# Altium integrated library ON Semi Signal Management Operational Amplifiers.IntLib: 435 symbols (part 2 of 12)
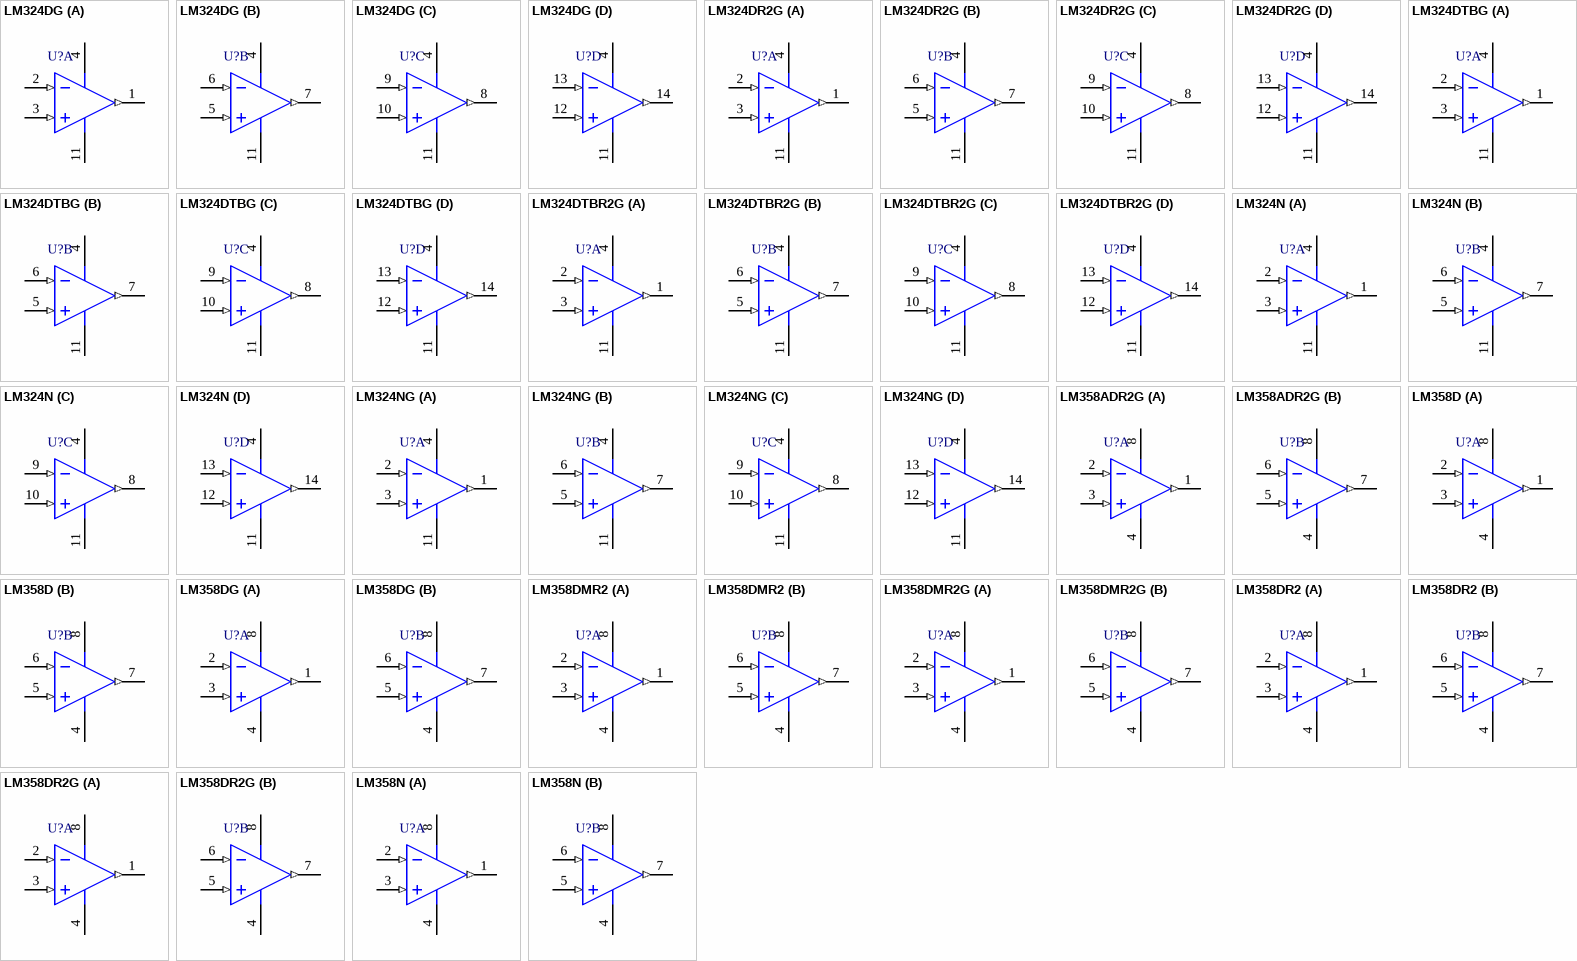
[diagram p26: symbols LM324DG to LM358N]

## LM324DTBG
designator U?
Single Supply Quad Operational Amplifier, 3 to 32 V, 0 to 70 degC, 14-Pin TSSOP, Pb-Free, Tube; Manufacturer: On Semiconductor; PartNumber: LM324DTBG; VCC Max (V): 32; VCC Min (V): 3; DatasheetVersion: Rev. 25; PackageVersion: Rev. B, 10/2006; PackageReference: TSSOP-14-948G-01; PackageDescription: 14-Pin Small Outline Package, Body 5 x 4.4 mm, Pitch 0.65 mm; Supplier 1: Digi-Key; Supplier Part Number 1: LM324DTBG-ND; Supplier 2: Mouser; Supplier Part Number 2: 863-LM324DTBG; Packing: Tube; RoHS: TRUE; Mounting Technology: Surface Mount; ComponentLink1Description: Manufacturer URL; ComponentLink1URL: http://www.onsemi.com/; ComponentLink2Description: Datasheet; ComponentLink2URL: http://www.onsemi.cn/pub_link/Collateral/LM324-D.PDF; ComponentLink3Description: Package Specification; ComponentLink3URL: http://www.onsemi.com/pub_link/Collateral/948G-01.PDF
footprint ONSC-TSSOP-14-948G-01_V (SOP, 14-Leads, Body 5.1x4.5mm, Pitch 0.65mm)
pins on every part: 4 VCC (power), 11 VEE/GND (power)
part A pins: 1 OUT1 (out), 2 IN1- (in), 3 IN1+ (in)
part B pins: 5 IN2+ (in), 6 IN2- (in), 7 OUT2 (out)
part C pins: 8 OUT3 (out), 9 IN3- (in), 10 IN3+ (in)
part D pins: 12 IN4+ (in), 13 IN4- (in), 14 OUT4 (out)

## LM324DTBR2G
designator U?
Single Supply Quad Operational Amplifier, 3 to 32 V, 0 to 70 degC, 14-Pin TSSOP, Pb-Free, Tape and Reel; Manufacturer: On Semiconductor; PartNumber: LM324DTBR2G; VCC Max (V): 32; VCC Min (V): 3; DatasheetVersion: Rev. 25; PackageVersion: Rev. B, 10/2006; PackageReference: TSSOP-14-948G-01; PackageDescription: 14-Pin Small Outline Package, Body 5 x 4.4 mm, Pitch 0.65 mm; Supplier 1: Digi-Key; Supplier Part Number 1: LM324DTBR2GOSTR-ND; Supplier 2: Digi-Key; Supplier Part Number 2: LM324DTBR2GOSCT-ND; Supplier 3: Digi-Key; Supplier Part Number 3: LM324DTBR2GOSDKR-ND; Supplier 4: Mouser; Supplier Part Number 4: 863-LM324DTBR2G; Packing: Tape and Reel; RoHS: TRUE; Mounting Technology: Surface Mount; ComponentLink1Description: Manufacturer URL; ComponentLink1URL: http://www.onsemi.com/; ComponentLink2Description: Datasheet; ComponentLink2URL: http://www.onsemi.cn/pub_link/Collateral/LM324-D.PDF; ComponentLink3Description: Package Specification; ComponentLink3URL: http://www.onsemi.com/pub_link/Collateral/948G-01.PDF
footprint ONSC-TSSOP-14-948G-01_V (SOP, 14-Leads, Body 5.1x4.5mm, Pitch 0.65mm)
pins on every part: 4 VCC (power), 11 VEE/GND (power)
part A pins: 1 OUT1 (out), 2 IN1- (in), 3 IN1+ (in)
part B pins: 5 IN2+ (in), 6 IN2- (in), 7 OUT2 (out)
part C pins: 8 OUT3 (out), 9 IN3- (in), 10 IN3+ (in)
part D pins: 12 IN4+ (in), 13 IN4- (in), 14 OUT4 (out)

## LM324N
designator U?
Single Supply Quad Operational Amplifier, 3 to 32 V, 0 to 70 degC, 14-Pin PDIP, Tube; Manufacturer: On Semiconductor; PartNumber: LM324N; VCC Max (V): 32; VCC Min (V): 3; DatasheetVersion: Rev. 25; PackageVersion: Rev. R, 06/2013; PackageReference: PDIP-14-646-06; PackageDescription: 14-Pin Plastic Dual-In Line Package, Body 19.18 x 6.605 mm, Pitch 2.54 mm; Packing: Tube; RoHS: FALSE; Mounting Technology: Through Hole; ComponentLink1Description: Manufacturer URL; ComponentLink1URL: http://www.onsemi.com/; ComponentLink2Description: Datasheet; ComponentLink2URL: http://www.onsemi.cn/pub_link/Collateral/LM324-D.PDF; ComponentLink3Description: Package Specification; ComponentLink3URL: http://www.onsemi.com/pub_link/Collateral/646-06.PDF
footprint ONSC-PDIP-14-646-06 (DIP, 14-Leads, Body 19.7x7.1mm, Pitch 2.54mm)
pins on every part: 4 VCC (power), 11 VEE/GND (power)
part A pins: 1 OUT1 (out), 2 IN1- (in), 3 IN1+ (in)
part B pins: 5 IN2+ (in), 6 IN2- (in), 7 OUT2 (out)
part C pins: 8 OUT3 (out), 9 IN3- (in), 10 IN3+ (in)
part D pins: 12 IN4+ (in), 13 IN4- (in), 14 OUT4 (out)

## LM324NG
designator U?
Single Supply Quad Operational Amplifier, 3 to 32 V, 0 to 70 degC, 14-Pin PDIP, Pb-Free, Tube; Manufacturer: On Semiconductor; PartNumber: LM324NG; VCC Max (V): 32; VCC Min (V): 3; DatasheetVersion: Rev. 25; PackageVersion: Rev. R, 06/2013; PackageReference: PDIP-14-646-06; PackageDescription: 14-Pin Plastic Dual-In Line Package, Body 19.18 x 6.605 mm, Pitch 2.54 mm; Supplier 1: Digi-Key; Supplier Part Number 1: LM324NGOS-ND; Supplier 2: Newark; Supplier Part Number 2: 45J0745; Supplier 3: Mouser; Supplier Part Number 3: 863-LM324NG; Packing: Tube; RoHS: TRUE; Mounting Technology: Through Hole; ComponentLink1Description: Manufacturer URL; ComponentLink1URL: http://www.onsemi.com/; ComponentLink2Description: Datasheet; ComponentLink2URL: http://www.onsemi.cn/pub_link/Collateral/LM324-D.PDF; ComponentLink3Description: Package Specification; ComponentLink3URL: http://www.onsemi.com/pub_link/Collateral/646-06.PDF
footprint ONSC-PDIP-14-646-06 (DIP, 14-Leads, Body 19.7x7.1mm, Pitch 2.54mm)
pins on every part: 4 VCC (power), 11 VEE/GND (power)
part A pins: 1 OUT1 (out), 2 IN1- (in), 3 IN1+ (in)
part B pins: 5 IN2+ (in), 6 IN2- (in), 7 OUT2 (out)
part C pins: 8 OUT3 (out), 9 IN3- (in), 10 IN3+ (in)
part D pins: 12 IN4+ (in), 13 IN4- (in), 14 OUT4 (out)

## LM358ADR2G
designator U?
Single Supply Dual Operational Amplifier, 3 to 32 V, 0 to 70 degC, 8-Pin SOIC, Pb-Free, Tape and Reel; Manufacturer: On Semiconductor; PartNumber: LM358ADR2G; VCC Max (V): 32; VCC Min (V): 3; DatasheetVersion: Rev. 27; PackageVersion: Rev. AK, 02/2011; PackageReference: SOIC-8-751-07; PackageDescription: 8-Pin Small Outline Integrated Circuit, Body 4.9 x 3.9 mm, Pitch 1.27 mm; Supplier 1: Digi-Key; Supplier Part Number 1: LM358ADR2GOSTR-ND; Supplier 2: Digi-Key; Supplier Part Number 2: LM358ADR2GOSCT-ND; Supplier 3: Digi-Key; Supplier Part Number 3: LM358ADR2GOSDKR-ND; Supplier 4: Newark; Supplier Part Number 4: 61K0061; Supplier 5: Mouser; Supplier Part Number 5: 863-LM358ADR2G; Packing: Tape and Reel; RoHS: TRUE; Mounting Technology: Surface Mount; ComponentLink1Description: Manufacturer URL; ComponentLink1URL: http://www.onsemi.com/; ComponentLink2Description: Datasheet; ComponentLink2URL: http://www.onsemi.cn/pub_link/Collateral/LM358-D.PDF; ComponentLink3Description: Package Specification; ComponentLink3URL: http://www.onsemi.com/pub_link/Collateral/751-07.PDF
footprint ONSC-SOIC-8-751-07_V (SOIC, 8-Leads, Body 4.9x3.9mm, Pitch 1.27mm)
pins on every part: 4 VEE/GND (power), 8 VCC (power)
part A pins: 1 OUTA (out), 2 INA- (in), 3 INA+ (in)
part B pins: 5 INB+ (in), 6 INB- (in), 7 OUTB (out)

## LM358D
designator U?
Single Supply Dual Operational Amplifier, 3 to 32 V, 0 to 70 degC, 8-Pin SOIC, Tube; Manufacturer: On Semiconductor; PartNumber: LM358D; VCC Max (V): 32; VCC Min (V): 3; DatasheetVersion: Rev. 27; PackageVersion: Rev. AK, 02/2011; PackageReference: SOIC-8-751-07; PackageDescription: 8-Pin Small Outline Integrated Circuit, Body 4.9 x 3.9 mm, Pitch 1.27 mm; Packing: Tube; RoHS: FALSE; Mounting Technology: Surface Mount; ComponentLink1Description: Manufacturer URL; ComponentLink1URL: http://www.onsemi.com/; ComponentLink2Description: Datasheet; ComponentLink2URL: http://www.onsemi.cn/pub_link/Collateral/LM358-D.PDF; ComponentLink3Description: Package Specification; ComponentLink3URL: http://www.onsemi.com/pub_link/Collateral/751-07.PDF
footprint ONSC-SOIC-8-751-07_V (SOIC, 8-Leads, Body 4.9x3.9mm, Pitch 1.27mm)
pins on every part: 4 VEE/GND (power), 8 VCC (power)
part A pins: 1 OUTA (out), 2 INA- (in), 3 INA+ (in)
part B pins: 5 INB+ (in), 6 INB- (in), 7 OUTB (out)

## LM358DG
designator U?
Single Supply Dual Operational Amplifier, 3 to 32 V, 0 to 70 degC, 8-Pin SOIC, Pb-Free, Tube; Manufacturer: On Semiconductor; PartNumber: LM358DG; VCC Max (V): 32; VCC Min (V): 3; DatasheetVersion: Rev. 27; PackageVersion: Rev. AK, 02/2011; PackageReference: SOIC-8-751-07; PackageDescription: 8-Pin Small Outline Integrated Circuit, Body 4.9 x 3.9 mm, Pitch 1.27 mm; Supplier 1: Digi-Key; Supplier Part Number 1: LM358DGOS-ND; Supplier 2: Farnell; Supplier Part Number 2: 1211106; Supplier 3: Farnell; Supplier Part Number 3: 1126415; Supplier 4: Newark; Supplier Part Number 4: 45J0748; Supplier 5: Mouser; Supplier Part Number 5: 863-LM358DG; Packing: Tube; RoHS: TRUE; Mounting Technology: Surface Mount; ComponentLink1Description: Manufacturer URL; ComponentLink1URL: http://www.onsemi.com/; ComponentLink2Description: Datasheet; ComponentLink2URL: http://www.onsemi.cn/pub_link/Collateral/LM358-D.PDF; ComponentLink3Description: Package Specification; ComponentLink3URL: http://www.onsemi.com/pub_link/Collateral/751-07.PDF
footprint ONSC-SOIC-8-751-07_V (SOIC, 8-Leads, Body 4.9x3.9mm, Pitch 1.27mm)
pins on every part: 4 VEE/GND (power), 8 VCC (power)
part A pins: 1 OUTA (out), 2 INA- (in), 3 INA+ (in)
part B pins: 5 INB+ (in), 6 INB- (in), 7 OUTB (out)

## LM358DMR2
designator U?
Single Supply Dual Operational Amplifier, 3 to 32 V, 0 to 70 degC, 8-Pin MICRO, Tape and Reel; Manufacturer: On Semiconductor; PartNumber: LM358DMR2; VCC Max (V): 32; VCC Min (V): 3; DatasheetVersion: Rev. 27; PackageVersion: Rev. H; PackageReference: MICRO-8-846A-02_H; PackageDescription: 8-Pin Small Outline Package, Body 3 x 3 mm, Pitch 0.65 mm; Supplier 1: Digi-Key; Supplier Part Number 1: LM358DMR2-ND; Packing: Tape and Reel; RoHS: FALSE; Mounting Technology: Surface Mount; ComponentLink1Description: Manufacturer URL; ComponentLink1URL: http://www.onsemi.com/; ComponentLink2Description: Datasheet; ComponentLink2URL: http://www.onsemi.cn/pub_link/Collateral/LM358-D.PDF; ComponentLink3Description: Package Specification; ComponentLink3URL: http://www.onsemi.com/pub_link/Collateral/NLSV2T244-D.PDF
footprint ONSC-MICRO-8-846A-02_H_V (SOIC, 8-Leads, Body 3.1x3.1mm, Pitch 0.65mm)
pins on every part: 4 VEE/GND (power), 8 VCC (power)
part A pins: 1 OUTA (out), 2 INA- (in), 3 INA+ (in)
part B pins: 5 INB+ (in), 6 INB- (in), 7 OUTB (out)

## LM358DMR2G
designator U?
Single Supply Dual Operational Amplifier, 3 to 32 V, 0 to 70 degC, 8-Pin MICRO, Pb-Free, Tape and Reel; Manufacturer: On Semiconductor; PartNumber: LM358DMR2G; VCC Max (V): 32; VCC Min (V): 3; DatasheetVersion: Rev. 27; PackageVersion: Rev. H; PackageReference: MICRO-8-846A-02_H; PackageDescription: 8-Pin Small Outline Package, Body 3 x 3 mm, Pitch 0.65 mm; Supplier 1: Digi-Key; Supplier Part Number 1: LM358DMR2GOSTR-ND; Supplier 2: Digi-Key; Supplier Part Number 2: LM358DMR2GOSCT-ND; Supplier 3: Digi-Key; Supplier Part Number 3: LM358DMR2GOSDKR-ND; Supplier 4: Newark; Supplier Part Number 4: 04R7818; Supplier 5: Mouser; Supplier Part Number 5: 863-LM358DMR2G; Packing: Tape and Reel; RoHS: TRUE; Mounting Technology: Surface Mount; ComponentLink1Description: Manufacturer URL; ComponentLink1URL: http://www.onsemi.com/; ComponentLink2Description: Datasheet; ComponentLink2URL: http://www.onsemi.cn/pub_link/Collateral/LM358-D.PDF; ComponentLink3Description: Package Specification; ComponentLink3URL: http://www.onsemi.com/pub_link/Collateral/NLSV2T244-D.PDF
footprint ONSC-MICRO-8-846A-02_H_V (SOIC, 8-Leads, Body 3.1x3.1mm, Pitch 0.65mm)
pins on every part: 4 VEE/GND (power), 8 VCC (power)
part A pins: 1 OUTA (out), 2 INA- (in), 3 INA+ (in)
part B pins: 5 INB+ (in), 6 INB- (in), 7 OUTB (out)

## LM358DR2
designator U?
Single Supply Dual Operational Amplifier, 3 to 32 V, 0 to 70 degC, 8-Pin SOIC, Tape and Reel; Manufacturer: On Semiconductor; PartNumber: LM358DR2; VCC Max (V): 32; VCC Min (V): 3; DatasheetVersion: Rev. 27; PackageVersion: Rev. AK, 02/2011; PackageReference: SOIC-8-751-07; PackageDescription: 8-Pin Small Outline Integrated Circuit, Body 4.9 x 3.9 mm, Pitch 1.27 mm; Supplier 1: Digi-Key; Supplier Part Number 1: LM358DR2OSCT-ND; Packing: Tape and Reel; RoHS: FALSE; Mounting Technology: Surface Mount; ComponentLink1Description: Manufacturer URL; ComponentLink1URL: http://www.onsemi.com/; ComponentLink2Description: Datasheet; ComponentLink2URL: http://www.onsemi.cn/pub_link/Collateral/LM358-D.PDF; ComponentLink3Description: Package Specification; ComponentLink3URL: http://www.onsemi.com/pub_link/Collateral/751-07.PDF
footprint ONSC-SOIC-8-751-07_V (SOIC, 8-Leads, Body 4.9x3.9mm, Pitch 1.27mm)
pins on every part: 4 VEE/GND (power), 8 VCC (power)
part A pins: 1 OUTA (out), 2 INA- (in), 3 INA+ (in)
part B pins: 5 INB+ (in), 6 INB- (in), 7 OUTB (out)

## LM358DR2G
designator U?
Single Supply Dual Operational Amplifier, 3 to 32 V, 0 to 70 degC, 8-Pin SOIC, Pb-Free, Tape and Reel; Manufacturer: On Semiconductor; PartNumber: LM358DR2G; VCC Max (V): 32; VCC Min (V): 3; DatasheetVersion: Rev. 27; PackageVersion: Rev. AK, 02/2011; PackageReference: SOIC-8-751-07; PackageDescription: 8-Pin Small Outline Integrated Circuit, Body 4.9 x 3.9 mm, Pitch 1.27 mm; Supplier 1: Digi-Key; Supplier Part Number 1: LM358DR2GOSTR-ND; Supplier 2: Digi-Key; Supplier Part Number 2: LM358DR2GOSCT-ND; Supplier 3: Digi-Key; Supplier Part Number 3: LM358DR2GOSDKR-ND; Supplier 4: Farnell; Supplier Part Number 4: 2102546RL; Supplier 5: Farnell; Supplier Part Number 5: 2102546; Supplier 6: Newark; Supplier Part Number 6: 83H7264; Supplier 7: Newark; Supplier Part Number 7: 29X6011; Supplier 8: Mouser; Supplier Part Number 8: 863-LM358DR2G; Packing: Tape and Reel; RoHS: TRUE; Mounting Technology: Surface Mount; ComponentLink1Description: Manufacturer URL; ComponentLink1URL: http://www.onsemi.com/; ComponentLink2Description: Datasheet; ComponentLink2URL: http://www.onsemi.cn/pub_link/Collateral/LM358-D.PDF; ComponentLink3Description: Package Specification; ComponentLink3URL: http://www.onsemi.com/pub_link/Collateral/751-07.PDF
footprint ONSC-SOIC-8-751-07_V (SOIC, 8-Leads, Body 4.9x3.9mm, Pitch 1.27mm)
pins on every part: 4 VEE/GND (power), 8 VCC (power)
part A pins: 1 OUTA (out), 2 INA- (in), 3 INA+ (in)
part B pins: 5 INB+ (in), 6 INB- (in), 7 OUTB (out)

## LM358N
designator U?
Single Supply Dual Operational Amplifier, 3 to 32 V, 0 to 70 degC, 8-Pin PDIP, Tube; Manufacturer: On Semiconductor; PartNumber: LM358N; VCC Max (V): 32; VCC Min (V): 3; DatasheetVersion: Rev. 27; PackageVersion: Rev. M, 04/2010; PackageReference: PDIP-8-626-05; PackageDescription: 8-Pin Plastic Dual-In Line Package, Body 9.52 x 6.605 mm, Pitch 2.54 mm; Packing: Tube; RoHS: FALSE; Mounting Technology: Through Hole; ComponentLink1Description: Manufacturer URL; ComponentLink1URL: http://www.onsemi.com/; ComponentLink2Description: Datasheet; ComponentLink2URL: http://www.onsemi.cn/pub_link/Collateral/LM358-D.PDF; ComponentLink3Description: Package Specification; ComponentLink3URL: http://www.onsemi.com/pub_link/Collateral/LM211-D.PDF
footprint ONSC-PDIP-8-626-05_M (DIP, 8-Leads, Body 10x7.1mm, Pitch 2.54mm)
pins on every part: 4 VEE/GND (power), 8 VCC (power)
part A pins: 1 OUTA (out), 2 INA- (in), 3 INA+ (in)
part B pins: 5 INB+ (in), 6 INB- (in), 7 OUTB (out)

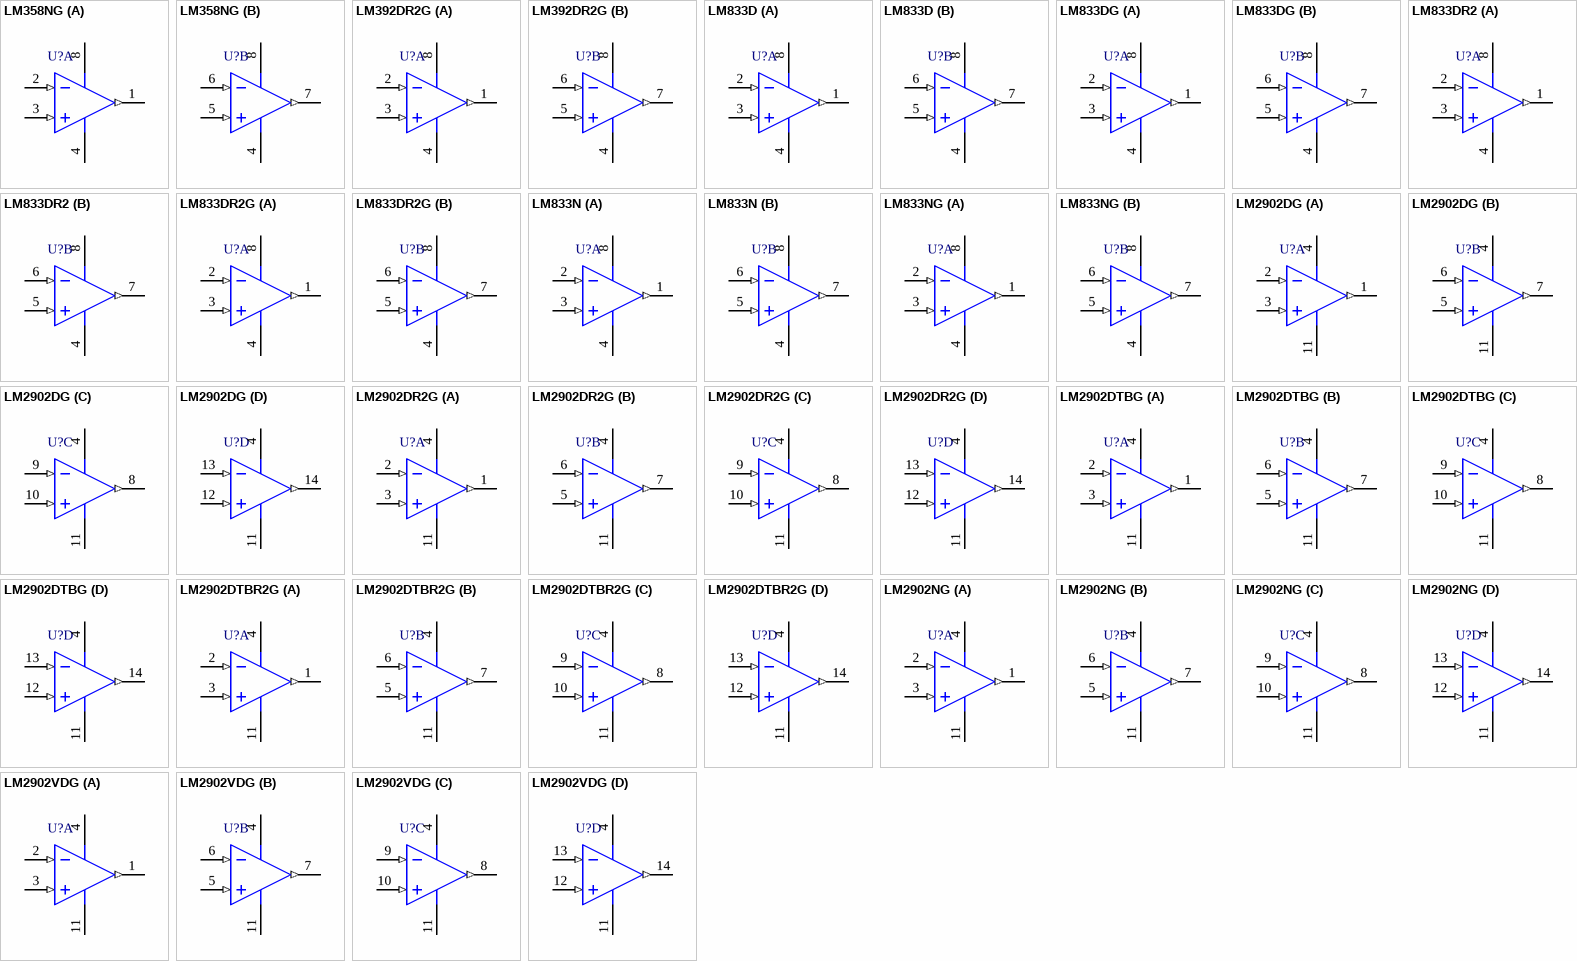
[diagram p3: symbols LM358NG to LM2902VDG]

## LM358NG
designator U?
Single Supply Dual Operational Amplifier, 3 to 32 V, 0 to 70 degC, 8-Pin PDIP, Pb-Free, Tube; Manufacturer: On Semiconductor; PartNumber: LM358NG; VCC Max (V): 32; VCC Min (V): 3; DatasheetVersion: Rev. 27; PackageVersion: Rev. M, 04/2010; PackageReference: PDIP-8-626-05; PackageDescription: 8-Pin Plastic Dual-In Line Package, Body 9.52 x 6.605 mm, Pitch 2.54 mm; Supplier 1: Digi-Key; Supplier Part Number 1: LM358NGOS-ND; Supplier 2: Farnell; Supplier Part Number 2: 1211132; Supplier 3: Mouser; Supplier Part Number 3: 863-LM358NG; Packing: Tube; RoHS: TRUE; Mounting Technology: Through Hole; ComponentLink1Description: Manufacturer URL; ComponentLink1URL: http://www.onsemi.com/; ComponentLink2Description: Datasheet; ComponentLink2URL: http://www.onsemi.cn/pub_link/Collateral/LM358-D.PDF; ComponentLink3Description: Package Specification; ComponentLink3URL: http://www.onsemi.com/pub_link/Collateral/LM211-D.PDF
footprint ONSC-PDIP-8-626-05_M (DIP, 8-Leads, Body 10x7.1mm, Pitch 2.54mm)
pins on every part: 4 VEE/GND (power), 8 VCC (power)
part A pins: 1 OUTA (out), 2 INA- (in), 3 INA+ (in)
part B pins: 5 INB+ (in), 6 INB- (in), 7 OUTB (out)

## LM392DR2G
designator U?
Low Power Operational Amplifier and Comparator, 3 to 32 V, 0 to 70 degC, 8-Pin SOIC, Pb-Free, Tape and Reel; Manufacturer: On Semiconductor; PartNumber: LM392DR2G; VCC Max (V): 32; VCC Min (V): 3; DatasheetVersion: Rev. 4; PackageVersion: Rev. AK, 02/2011; PackageReference: SOIC-8-751-07; PackageDescription: 8-Pin Small Outline Integrated Circuit, Body 4.9 x 3.9 mm, Pitch 1.27 mm; Supplier 1: Digi-Key; Supplier Part Number 1: LM392DR2G-ND; Supplier 2: Mouser; Supplier Part Number 2: 863-LM392DR2G; Packing: Tape and Reel; RoHS: TRUE; Mounting Technology: Surface Mount; ComponentLink1Description: Manufacturer URL; ComponentLink1URL: http://www.onsemi.com/; ComponentLink2Description: Datasheet; ComponentLink2URL: http://www.onsemi.cn/pub_link/Collateral/LM392-D.PDF; ComponentLink3Description: Package Specification; ComponentLink3URL: http://www.onsemi.com/pub_link/Collateral/751-07.PDF
footprint ONSC-SOIC-8-751-07_V (SOIC, 8-Leads, Body 4.9x3.9mm, Pitch 1.27mm)
pins on every part: 4 GND (power), 8 V+ (power)
part A pins: 1 OUTA (out), 2 INA- (in), 3 INA+ (in)
part B pins: 5 INB+ (in), 6 INB- (in), 7 OUTB (out)

## LM833D
designator U?
Low Noise, Audio Dual Operational Amplifier, -40 to 85 degC, 8-Pin SOIC, Tube; Manufacturer: On Semiconductor; PartNumber: LM833D; GBW Typ (MHz): 15; SR Typ (V/uS): 7; DatasheetVersion: Rev. 6; PackageVersion: Rev. AK, 02/2011; PackageReference: SOIC-8-751-07; PackageDescription: 8-Pin Small Outline Integrated Circuit, Body 4.9 x 3.9 mm, Pitch 1.27 mm; Packing: Tube; RoHS: FALSE; Mounting Technology: Surface Mount; ComponentLink1Description: Manufacturer URL; ComponentLink1URL: http://www.onsemi.com/; ComponentLink2Description: Datasheet; ComponentLink2URL: http://www.onsemi.cn/pub_link/Collateral/LM833-D.PDF; ComponentLink3Description: Package Specification; ComponentLink3URL: http://www.onsemi.com/pub_link/Collateral/751-07.PDF
footprint ONSC-SOIC-8-751-07_V (SOIC, 8-Leads, Body 4.9x3.9mm, Pitch 1.27mm)
pins on every part: 4 VEE (power), 8 VCC (power)
part A pins: 1 OUT1 (out), 2 IN1- (in), 3 IN1+ (in)
part B pins: 5 IN2+ (in), 6 IN2- (in), 7 OUT2 (out)

## LM833DG
designator U?
Low Noise, Audio Dual Operational Amplifier, -40 to 85 degC, 8-Pin SOIC, Pb-Free, Tube; Manufacturer: On Semiconductor; PartNumber: LM833DG; GBW Typ (MHz): 15; SR Typ (V/uS): 7; DatasheetVersion: Rev. 6; PackageVersion: Rev. AK, 02/2011; PackageReference: SOIC-8-751-07; PackageDescription: 8-Pin Small Outline Integrated Circuit, Body 4.9 x 3.9 mm, Pitch 1.27 mm; Supplier 1: Digi-Key; Supplier Part Number 1: LM833DGOS-ND; Supplier 2: Newark; Supplier Part Number 2: 71J5026; Supplier 3: Mouser; Supplier Part Number 3: 863-LM833DG; Packing: Tube; RoHS: TRUE; Mounting Technology: Surface Mount; ComponentLink1Description: Manufacturer URL; ComponentLink1URL: http://www.onsemi.com/; ComponentLink2Description: Datasheet; ComponentLink2URL: http://www.onsemi.cn/pub_link/Collateral/LM833-D.PDF; ComponentLink3Description: Package Specification; ComponentLink3URL: http://www.onsemi.com/pub_link/Collateral/751-07.PDF
footprint ONSC-SOIC-8-751-07_V (SOIC, 8-Leads, Body 4.9x3.9mm, Pitch 1.27mm)
pins on every part: 4 VEE (power), 8 VCC (power)
part A pins: 1 OUT1 (out), 2 IN1- (in), 3 IN1+ (in)
part B pins: 5 IN2+ (in), 6 IN2- (in), 7 OUT2 (out)

## LM833DR2
designator U?
Low Noise, Audio Dual Operational Amplifier, -40 to 85 degC, 8-Pin SOIC, Tape and Reel; Manufacturer: On Semiconductor; PartNumber: LM833DR2; GBW Typ (MHz): 15; SR Typ (V/uS): 7; DatasheetVersion: Rev. 6; PackageVersion: Rev. AK, 02/2011; PackageReference: SOIC-8-751-07; PackageDescription: 8-Pin Small Outline Integrated Circuit, Body 4.9 x 3.9 mm, Pitch 1.27 mm; Supplier 1: Digi-Key; Supplier Part Number 1: LM833DR2OSCT-ND; Packing: Tape and Reel; RoHS: FALSE; Mounting Technology: Surface Mount; ComponentLink1Description: Manufacturer URL; ComponentLink1URL: http://www.onsemi.com/; ComponentLink2Description: Datasheet; ComponentLink2URL: http://www.onsemi.cn/pub_link/Collateral/LM833-D.PDF; ComponentLink3Description: Package Specification; ComponentLink3URL: http://www.onsemi.com/pub_link/Collateral/751-07.PDF
footprint ONSC-SOIC-8-751-07_V (SOIC, 8-Leads, Body 4.9x3.9mm, Pitch 1.27mm)
pins on every part: 4 VEE (power), 8 VCC (power)
part A pins: 1 OUT1 (out), 2 IN1- (in), 3 IN1+ (in)
part B pins: 5 IN2+ (in), 6 IN2- (in), 7 OUT2 (out)

## LM833DR2G
designator U?
Low Noise, Audio Dual Operational Amplifier, -40 to 85 degC, 8-Pin SOIC, Pb-Free, Tape and Reel; Manufacturer: On Semiconductor; PartNumber: LM833DR2G; GBW Typ (MHz): 15; SR Typ (V/uS): 7; DatasheetVersion: Rev. 6; PackageVersion: Rev. AK, 02/2011; PackageReference: SOIC-8-751-07; PackageDescription: 8-Pin Small Outline Integrated Circuit, Body 4.9 x 3.9 mm, Pitch 1.27 mm; Supplier 1: Digi-Key; Supplier Part Number 1: LM833DR2GOSTR-ND; Supplier 2: Digi-Key; Supplier Part Number 2: LM833DR2GOSCT-ND; Supplier 3: Digi-Key; Supplier Part Number 3: LM833DR2GOSDKR-ND; Supplier 4: Newark; Supplier Part Number 4: 84K8735; Supplier 5: Mouser; Supplier Part Number 5: 863-LM833DR2G; Packing: Tape and Reel; RoHS: TRUE; Mounting Technology: Surface Mount; ComponentLink1Description: Manufacturer URL; ComponentLink1URL: http://www.onsemi.com/; ComponentLink2Description: Datasheet; ComponentLink2URL: http://www.onsemi.cn/pub_link/Collateral/LM833-D.PDF; ComponentLink3Description: Package Specification; ComponentLink3URL: http://www.onsemi.com/pub_link/Collateral/751-07.PDF
footprint ONSC-SOIC-8-751-07_V (SOIC, 8-Leads, Body 4.9x3.9mm, Pitch 1.27mm)
pins on every part: 4 VEE (power), 8 VCC (power)
part A pins: 1 OUT1 (out), 2 IN1- (in), 3 IN1+ (in)
part B pins: 5 IN2+ (in), 6 IN2- (in), 7 OUT2 (out)

## LM833N
designator U?
Low Noise, Audio Dual Operational Amplifier, -40 to 85 degC, 8-Pin PDIP, Tube; Manufacturer: On Semiconductor; PartNumber: LM833N; GBW Typ (MHz): 15; SR Typ (V/uS): 7; DatasheetVersion: Rev. 6; PackageVersion: Rev. M, 04/2010; PackageReference: PDIP-8-626-05; PackageDescription: 8-Pin Plastic Dual-In Line Package, Body 9.52 x 6.605 mm, Pitch 2.54 mm; Packing: Tube; RoHS: FALSE; Mounting Technology: Through Hole; ComponentLink1Description: Manufacturer URL; ComponentLink1URL: http://www.onsemi.com/; ComponentLink2Description: Datasheet; ComponentLink2URL: http://www.onsemi.cn/pub_link/Collateral/LM833-D.PDF; ComponentLink3Description: Package Specification; ComponentLink3URL: http://www.onsemi.com/pub_link/Collateral/LM211-D.PDF
footprint ONSC-PDIP-8-626-05_M (DIP, 8-Leads, Body 10x7.1mm, Pitch 2.54mm)
pins on every part: 4 VEE (power), 8 VCC (power)
part A pins: 1 OUT1 (out), 2 IN1- (in), 3 IN1+ (in)
part B pins: 5 IN2+ (in), 6 IN2- (in), 7 OUT2 (out)

## LM833NG
designator U?
Low Noise, Audio Dual Operational Amplifier, -40 to 85 degC, 8-Pin PDIP, Pb-Free, Tube; Manufacturer: On Semiconductor; PartNumber: LM833NG; GBW Typ (MHz): 15; SR Typ (V/uS): 7; DatasheetVersion: Rev. 6; PackageVersion: Rev. M, 04/2010; PackageReference: PDIP-8-626-05; PackageDescription: 8-Pin Plastic Dual-In Line Package, Body 9.52 x 6.605 mm, Pitch 2.54 mm; Supplier 1: Digi-Key; Supplier Part Number 1: LM833NGOS-ND; Supplier 2: Farnell; Supplier Part Number 2: 1214467; Supplier 3: Newark; Supplier Part Number 3: 26K3636; Supplier 4: Mouser; Supplier Part Number 4: 863-LM833NG; Packing: Tube; RoHS: TRUE; Mounting Technology: Through Hole; ComponentLink1Description: Manufacturer URL; ComponentLink1URL: http://www.onsemi.com/; ComponentLink2Description: Datasheet; ComponentLink2URL: http://www.onsemi.cn/pub_link/Collateral/LM833-D.PDF; ComponentLink3Description: Package Specification; ComponentLink3URL: http://www.onsemi.com/pub_link/Collateral/LM211-D.PDF
footprint ONSC-PDIP-8-626-05_M (DIP, 8-Leads, Body 10x7.1mm, Pitch 2.54mm)
pins on every part: 4 VEE (power), 8 VCC (power)
part A pins: 1 OUT1 (out), 2 IN1- (in), 3 IN1+ (in)
part B pins: 5 IN2+ (in), 6 IN2- (in), 7 OUT2 (out)

## LM2902DG
designator U?
Single Supply Quad Operational Amplifier, 3 to 32 V, -40 to 105 degC, 14-Pin SOIC, Pb-Free, Tube; Manufacturer: On Semiconductor; PartNumber: LM2902DG; VCC Max (V): 32; VCC Min (V): 3; DatasheetVersion: Rev. 25; PackageVersion: Rev. K, 05/2011; PackageReference: SOIC-14-751A-03; PackageDescription: 14-Pin Small Outline Integrated Circuit, Body 8.65 x 3.9 mm, Pitch 1.27 mm; Supplier 1: Digi-Key; Supplier Part Number 1: LM2902DGOS-ND; Supplier 2: Farnell; Supplier Part Number 2: 1191816; Supplier 3: Newark; Supplier Part Number 3: 45J0722; Supplier 4: Mouser; Supplier Part Number 4: 863-LM2902DG; Packing: Tube; RoHS: TRUE; Mounting Technology: Surface Mount; ComponentLink1Description: Manufacturer URL; ComponentLink1URL: http://www.onsemi.com/; ComponentLink2Description: Datasheet; ComponentLink2URL: http://www.onsemi.cn/pub_link/Collateral/LM324-D.PDF; ComponentLink3Description: Package Specification; ComponentLink3URL: http://www.onsemi.com/pub_link/Collateral/751A-03.PDF
footprint ONSC-SOIC-14-751A-03_V (SOIC, 14-Leads, Body 8.75x4mm, Pitch 1.27mm)
pins on every part: 4 VCC (power), 11 VEE/GND (power)
part A pins: 1 OUT1 (out), 2 IN1- (in), 3 IN1+ (in)
part B pins: 5 IN2+ (in), 6 IN2- (in), 7 OUT2 (out)
part C pins: 8 OUT3 (out), 9 IN3- (in), 10 IN3+ (in)
part D pins: 12 IN4+ (in), 13 IN4- (in), 14 OUT4 (out)

## LM2902DR2G
designator U?
Single Supply Quad Operational Amplifier, 3 to 32 V, -40 to 105 degC, 14-Pin SOIC, Pb-Free, Tape and Reel; Manufacturer: On Semiconductor; PartNumber: LM2902DR2G; VCC Max (V): 32; VCC Min (V): 3; DatasheetVersion: Rev. 25; PackageVersion: Rev. K, 05/2011; PackageReference: SOIC-14-751A-03; PackageDescription: 14-Pin Small Outline Integrated Circuit, Body 8.65 x 3.9 mm, Pitch 1.27 mm; Supplier 1: Digi-Key; Supplier Part Number 1: LM2902DR2GOSTR-ND; Supplier 2: Digi-Key; Supplier Part Number 2: LM2902DR2GOSCT-ND; Supplier 3: Digi-Key; Supplier Part Number 3: LM2902DR2GOSDKR-ND; Supplier 4: Newark; Supplier Part Number 4: 84K8727; Supplier 5: Mouser; Supplier Part Number 5: 863-LM2902DR2G; Packing: Tape and Reel; RoHS: TRUE; Mounting Technology: Surface Mount; ComponentLink1Description: Manufacturer URL; ComponentLink1URL: http://www.onsemi.com/; ComponentLink2Description: Datasheet; ComponentLink2URL: http://www.onsemi.cn/pub_link/Collateral/LM324-D.PDF; ComponentLink3Description: Package Specification; ComponentLink3URL: http://www.onsemi.com/pub_link/Collateral/751A-03.PDF
footprint ONSC-SOIC-14-751A-03_V (SOIC, 14-Leads, Body 8.75x4mm, Pitch 1.27mm)
pins on every part: 4 VCC (power), 11 VEE/GND (power)
part A pins: 1 OUT1 (out), 2 IN1- (in), 3 IN1+ (in)
part B pins: 5 IN2+ (in), 6 IN2- (in), 7 OUT2 (out)
part C pins: 8 OUT3 (out), 9 IN3- (in), 10 IN3+ (in)
part D pins: 12 IN4+ (in), 13 IN4- (in), 14 OUT4 (out)

## LM2902DTBG
designator U?
Single Supply Quad Operational Amplifier, 3 to 32 V, -40 to 105 degC, 14-Pin TSSOP, Pb-Free, Tube; Manufacturer: On Semiconductor; PartNumber: LM2902DTBG; VCC Max (V): 32; VCC Min (V): 3; DatasheetVersion: Rev. 25; PackageVersion: Rev. B, 10/2006; PackageReference: TSSOP-14-948G-01; PackageDescription: 14-Pin Small Outline Package, Body 5 x 4.4 mm, Pitch 0.65 mm; Supplier 1: Digi-Key; Supplier Part Number 1: LM2902DTBG-ND; Supplier 2: Newark; Supplier Part Number 2: 41K9864; Supplier 3: Mouser; Supplier Part Number 3: 863-LM2902DTBG; Packing: Tube; RoHS: TRUE; Mounting Technology: Surface Mount; ComponentLink1Description: Manufacturer URL; ComponentLink1URL: http://www.onsemi.com/; ComponentLink2Description: Datasheet; ComponentLink2URL: http://www.onsemi.cn/pub_link/Collateral/LM324-D.PDF; ComponentLink3Description: Package Specification; ComponentLink3URL: http://www.onsemi.com/pub_link/Collateral/948G-01.PDF
footprint ONSC-TSSOP-14-948G-01_V (SOP, 14-Leads, Body 5.1x4.5mm, Pitch 0.65mm)
pins on every part: 4 VCC (power), 11 VEE/GND (power)
part A pins: 1 OUT1 (out), 2 IN1- (in), 3 IN1+ (in)
part B pins: 5 IN2+ (in), 6 IN2- (in), 7 OUT2 (out)
part C pins: 8 OUT3 (out), 9 IN3- (in), 10 IN3+ (in)
part D pins: 12 IN4+ (in), 13 IN4- (in), 14 OUT4 (out)

## LM2902DTBR2G
designator U?
Single Supply Quad Operational Amplifier, 3 to 32 V, -40 to 105 degC, 14-Pin TSSOP, Pb-Free, Tape and Reel; Manufacturer: On Semiconductor; PartNumber: LM2902DTBR2G; VCC Max (V): 32; VCC Min (V): 3; DatasheetVersion: Rev. 25; PackageVersion: Rev. B, 10/2006; PackageReference: TSSOP-14-948G-01; PackageDescription: 14-Pin Small Outline Package, Body 5 x 4.4 mm, Pitch 0.65 mm; Supplier 1: Digi-Key; Supplier Part Number 1: LM2902DTBR2GOSTR-ND; Supplier 2: Digi-Key; Supplier Part Number 2: LM2902DTBR2GOSCT-ND; Supplier 3: Digi-Key; Supplier Part Number 3: LM2902DTBR2GOSDKR-ND; Supplier 4: Newark; Supplier Part Number 4: 41K9865; Supplier 5: Mouser; Supplier Part Number 5: 863-LM2902DTBR2G; Packing: Tape and Reel; RoHS: TRUE; Mounting Technology: Surface Mount; ComponentLink1Description: Manufacturer URL; ComponentLink1URL: http://www.onsemi.com/; ComponentLink2Description: Datasheet; ComponentLink2URL: http://www.onsemi.cn/pub_link/Collateral/LM324-D.PDF; ComponentLink3Description: Package Specification; ComponentLink3URL: http://www.onsemi.com/pub_link/Collateral/948G-01.PDF
footprint ONSC-TSSOP-14-948G-01_V (SOP, 14-Leads, Body 5.1x4.5mm, Pitch 0.65mm)
pins on every part: 4 VCC (power), 11 VEE/GND (power)
part A pins: 1 OUT1 (out), 2 IN1- (in), 3 IN1+ (in)
part B pins: 5 IN2+ (in), 6 IN2- (in), 7 OUT2 (out)
part C pins: 8 OUT3 (out), 9 IN3- (in), 10 IN3+ (in)
part D pins: 12 IN4+ (in), 13 IN4- (in), 14 OUT4 (out)

## LM2902NG
designator U?
Single Supply Quad Operational Amplifier, 3 to 32 V, -40 to 105 degC, 14-Pin PDIP, Pb-Free, Tube; Manufacturer: On Semiconductor; PartNumber: LM2902NG; VCC Max (V): 32; VCC Min (V): 3; DatasheetVersion: Rev. 25; PackageVersion: Rev. R, 06/2013; PackageReference: PDIP-14-646-06; PackageDescription: 14-Pin Plastic Dual-In Line Package, Body 19.18 x 6.605 mm, Pitch 2.54 mm; Supplier 1: Digi-Key; Supplier Part Number 1: LM2902NGOS-ND; Supplier 2: Farnell; Supplier Part Number 2: 1126407; Supplier 3: Newark; Supplier Part Number 3: 45J0723; Supplier 4: Mouser; Supplier Part Number 4: 863-LM2902NG; Packing: Tube; RoHS: TRUE; Mounting Technology: Through Hole; ComponentLink1Description: Manufacturer URL; ComponentLink1URL: http://www.onsemi.com/; ComponentLink2Description: Datasheet; ComponentLink2URL: http://www.onsemi.cn/pub_link/Collateral/LM324-D.PDF; ComponentLink3Description: Package Specification; ComponentLink3URL: http://www.onsemi.com/pub_link/Collateral/646-06.PDF
footprint ONSC-PDIP-14-646-06 (DIP, 14-Leads, Body 19.7x7.1mm, Pitch 2.54mm)
pins on every part: 4 VCC (power), 11 VEE/GND (power)
part A pins: 1 OUT1 (out), 2 IN1- (in), 3 IN1+ (in)
part B pins: 5 IN2+ (in), 6 IN2- (in), 7 OUT2 (out)
part C pins: 8 OUT3 (out), 9 IN3- (in), 10 IN3+ (in)
part D pins: 12 IN4+ (in), 13 IN4- (in), 14 OUT4 (out)

## LM2902VDG
designator U?
Single Supply Quad Operational Amplifier, 3 to 32 V, -40 to 125 degC, 14-Pin SOIC, Pb-Free, Tube; Manufacturer: On Semiconductor; PartNumber: LM2902VDG; VCC Max (V): 32; VCC Min (V): 3; DatasheetVersion: Rev. 25; PackageVersion: Rev. K, 05/2011; PackageReference: SOIC-14-751A-03; PackageDescription: 14-Pin Small Outline Integrated Circuit, Body 8.65 x 3.9 mm, Pitch 1.27 mm; Supplier 1: Digi-Key; Supplier Part Number 1: LM2902VDG-ND; Supplier 2: Mouser; Supplier Part Number 2: 863-LM2902VDG; Packing: Tube; RoHS: TRUE; Mounting Technology: Surface Mount; ComponentLink1Description: Manufacturer URL; ComponentLink1URL: http://www.onsemi.com/; ComponentLink2Description: Datasheet; ComponentLink2URL: http://www.onsemi.cn/pub_link/Collateral/LM324-D.PDF; ComponentLink3Description: Package Specification; ComponentLink3URL: http://www.onsemi.com/pub_link/Collateral/751A-03.PDF
footprint ONSC-SOIC-14-751A-03_V (SOIC, 14-Leads, Body 8.75x4mm, Pitch 1.27mm)
pins on every part: 4 VCC (power), 11 VEE/GND (power)
part A pins: 1 OUT1 (out), 2 IN1- (in), 3 IN1+ (in)
part B pins: 5 IN2+ (in), 6 IN2- (in), 7 OUT2 (out)
part C pins: 8 OUT3 (out), 9 IN3- (in), 10 IN3+ (in)
part D pins: 12 IN4+ (in), 13 IN4- (in), 14 OUT4 (out)

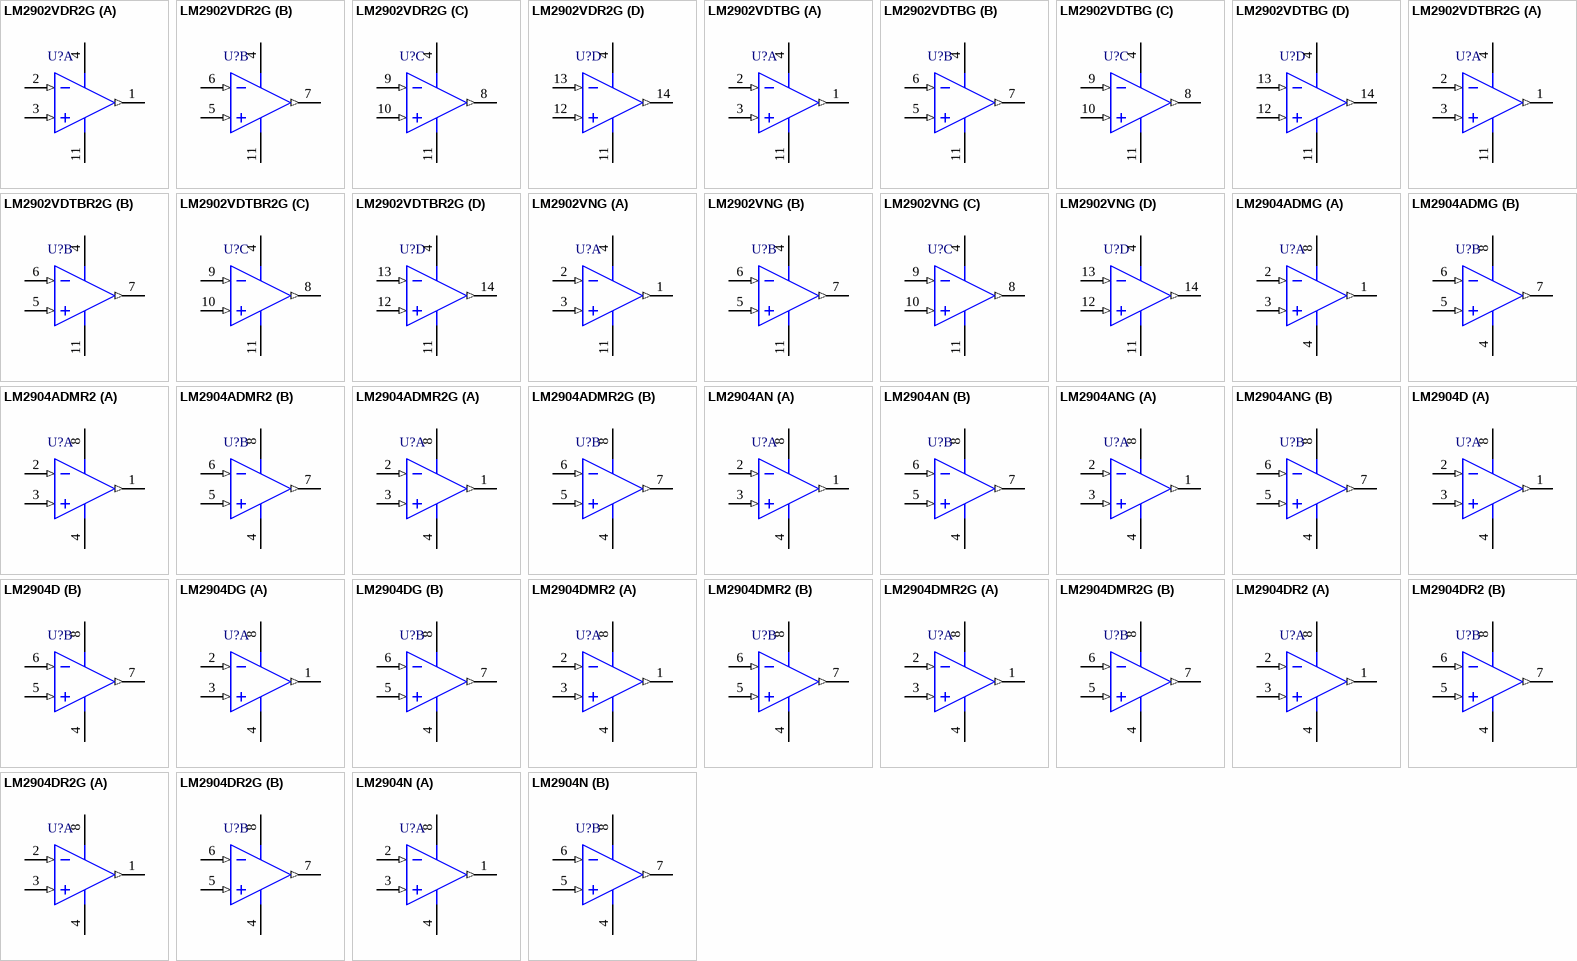
[diagram p4: symbols LM2902VDR2G to LM2904N]

## LM2902VDR2G
designator U?
Single Supply Quad Operational Amplifier, 3 to 32 V, -40 to 125 degC, 14-Pin SOIC, Pb-Free, Tape and Reel; Manufacturer: On Semiconductor; PartNumber: LM2902VDR2G; VCC Max (V): 32; VCC Min (V): 3; DatasheetVersion: Rev. 25; PackageVersion: Rev. K, 05/2011; PackageReference: SOIC-14-751A-03; PackageDescription: 14-Pin Small Outline Integrated Circuit, Body 8.65 x 3.9 mm, Pitch 1.27 mm; Supplier 1: Digi-Key; Supplier Part Number 1: LM2902VDR2GOSTR-ND; Supplier 2: Digi-Key; Supplier Part Number 2: LM2902VDR2GOSCT-ND; Supplier 3: Newark; Supplier Part Number 3: 45J0724; Supplier 4: Mouser; Supplier Part Number 4: 863-LM2902VDR2G; Packing: Tape and Reel; RoHS: TRUE; Mounting Technology: Surface Mount; ComponentLink1Description: Manufacturer URL; ComponentLink1URL: http://www.onsemi.com/; ComponentLink2Description: Datasheet; ComponentLink2URL: http://www.onsemi.cn/pub_link/Collateral/LM324-D.PDF; ComponentLink3Description: Package Specification; ComponentLink3URL: http://www.onsemi.com/pub_link/Collateral/751A-03.PDF
footprint ONSC-SOIC-14-751A-03_V (SOIC, 14-Leads, Body 8.75x4mm, Pitch 1.27mm)
pins on every part: 4 VCC (power), 11 VEE/GND (power)
part A pins: 1 OUT1 (out), 2 IN1- (in), 3 IN1+ (in)
part B pins: 5 IN2+ (in), 6 IN2- (in), 7 OUT2 (out)
part C pins: 8 OUT3 (out), 9 IN3- (in), 10 IN3+ (in)
part D pins: 12 IN4+ (in), 13 IN4- (in), 14 OUT4 (out)

## LM2902VDTBG
designator U?
Single Supply Quad Operational Amplifier, 3 to 32 V, -40 to 125 degC, 14-Pin TSSOP, Pb-Free, Tube; Manufacturer: On Semiconductor; PartNumber: LM2902VDTBG; VCC Max (V): 32; VCC Min (V): 3; DatasheetVersion: Rev. 25; PackageVersion: Rev. B, 10/2006; PackageReference: TSSOP-14-948G-01; PackageDescription: 14-Pin Small Outline Package, Body 5 x 4.4 mm, Pitch 0.65 mm; Supplier 1: Digi-Key; Supplier Part Number 1: LM2902VDTBG-ND; Supplier 2: Mouser; Supplier Part Number 2: 863-LM2902VDTBG; Packing: Tube; RoHS: TRUE; Mounting Technology: Surface Mount; ComponentLink1Description: Manufacturer URL; ComponentLink1URL: http://www.onsemi.com/; ComponentLink2Description: Datasheet; ComponentLink2URL: http://www.onsemi.cn/pub_link/Collateral/LM324-D.PDF; ComponentLink3Description: Package Specification; ComponentLink3URL: http://www.onsemi.com/pub_link/Collateral/948G-01.PDF
footprint ONSC-TSSOP-14-948G-01_V (SOP, 14-Leads, Body 5.1x4.5mm, Pitch 0.65mm)
pins on every part: 4 VCC (power), 11 VEE/GND (power)
part A pins: 1 OUT1 (out), 2 IN1- (in), 3 IN1+ (in)
part B pins: 5 IN2+ (in), 6 IN2- (in), 7 OUT2 (out)
part C pins: 8 OUT3 (out), 9 IN3- (in), 10 IN3+ (in)
part D pins: 12 IN4+ (in), 13 IN4- (in), 14 OUT4 (out)

## LM2902VDTBR2G
designator U?
Single Supply Quad Operational Amplifier, 3 to 32 V, -40 to 125 degC, 14-Pin TSSOP, Pb-Free, Tape and Reel; Manufacturer: On Semiconductor; PartNumber: LM2902VDTBR2G; VCC Max (V): 32; VCC Min (V): 3; DatasheetVersion: Rev. 25; PackageVersion: Rev. B, 10/2006; PackageReference: TSSOP-14-948G-01; PackageDescription: 14-Pin Small Outline Package, Body 5 x 4.4 mm, Pitch 0.65 mm; Supplier 1: Digi-Key; Supplier Part Number 1: LM2902VDTBR2GOS-ND; Supplier 2: Mouser; Supplier Part Number 2: 863-LM2902VDTBR2G; Packing: Tape and Reel; RoHS: TRUE; Mounting Technology: Surface Mount; ComponentLink1Description: Manufacturer URL; ComponentLink1URL: http://www.onsemi.com/; ComponentLink2Description: Datasheet; ComponentLink2URL: http://www.onsemi.cn/pub_link/Collateral/LM324-D.PDF; ComponentLink3Description: Package Specification; ComponentLink3URL: http://www.onsemi.com/pub_link/Collateral/948G-01.PDF
footprint ONSC-TSSOP-14-948G-01_V (SOP, 14-Leads, Body 5.1x4.5mm, Pitch 0.65mm)
pins on every part: 4 VCC (power), 11 VEE/GND (power)
part A pins: 1 OUT1 (out), 2 IN1- (in), 3 IN1+ (in)
part B pins: 5 IN2+ (in), 6 IN2- (in), 7 OUT2 (out)
part C pins: 8 OUT3 (out), 9 IN3- (in), 10 IN3+ (in)
part D pins: 12 IN4+ (in), 13 IN4- (in), 14 OUT4 (out)

## LM2902VNG
designator U?
Single Supply Quad Operational Amplifier, 3 to 32 V, -40 to 125 degC, 14-Pin PDIP, Pb-Free, Tube; Manufacturer: On Semiconductor; PartNumber: LM2902VNG; VCC Max (V): 32; VCC Min (V): 3; DatasheetVersion: Rev. 25; PackageVersion: Rev. R, 06/2013; PackageReference: PDIP-14-646-06; PackageDescription: 14-Pin Plastic Dual-In Line Package, Body 19.18 x 6.605 mm, Pitch 2.54 mm; Supplier 1: Digi-Key; Supplier Part Number 1: LM2902VNGOS-ND; Supplier 2: Mouser; Supplier Part Number 2: 863-LM2902VNG; Packing: Tube; RoHS: TRUE; Mounting Technology: Through Hole; ComponentLink1Description: Manufacturer URL; ComponentLink1URL: http://www.onsemi.com/; ComponentLink2Description: Datasheet; ComponentLink2URL: http://www.onsemi.cn/pub_link/Collateral/LM324-D.PDF; ComponentLink3Description: Package Specification; ComponentLink3URL: http://www.onsemi.com/pub_link/Collateral/646-06.PDF
footprint ONSC-PDIP-14-646-06 (DIP, 14-Leads, Body 19.7x7.1mm, Pitch 2.54mm)
pins on every part: 4 VCC (power), 11 VEE/GND (power)
part A pins: 1 OUT1 (out), 2 IN1- (in), 3 IN1+ (in)
part B pins: 5 IN2+ (in), 6 IN2- (in), 7 OUT2 (out)
part C pins: 8 OUT3 (out), 9 IN3- (in), 10 IN3+ (in)
part D pins: 12 IN4+ (in), 13 IN4- (in), 14 OUT4 (out)

## LM2904ADMG
designator U?
Single Supply Dual Operational Amplifier, 3 to 32 V, -40 to 105 degC, 8-Pin MICRO, Pb-Free, Tape and Reel; Manufacturer: On Semiconductor; PartNumber: LM2904ADMG; VCC Max (V): 32; VCC Min (V): 3; DatasheetVersion: Rev. 27; PackageVersion: Rev. H; PackageReference: MICRO-8-846A-02_H; PackageDescription: 8-Pin Small Outline Package, Body 3 x 3 mm, Pitch 0.65 mm; Supplier 1: Digi-Key; Supplier Part Number 1: LM2904ADMG-ND; Supplier 2: Mouser; Supplier Part Number 2: 863-LM2904ADMG; Packing: Tape and Reel; RoHS: TRUE; Mounting Technology: Surface Mount; ComponentLink1Description: Manufacturer URL; ComponentLink1URL: http://www.onsemi.com/; ComponentLink2Description: Datasheet; ComponentLink2URL: http://www.onsemi.cn/pub_link/Collateral/LM358-D.PDF; ComponentLink3Description: Package Specification; ComponentLink3URL: http://www.onsemi.com/pub_link/Collateral/NLSV2T244-D.PDF
footprint ONSC-MICRO-8-846A-02_H_V (SOIC, 8-Leads, Body 3.1x3.1mm, Pitch 0.65mm)
pins on every part: 4 VEE/GND (power), 8 VCC (power)
part A pins: 1 OUTA (out), 2 INA- (in), 3 INA+ (in)
part B pins: 5 INB+ (in), 6 INB- (in), 7 OUTB (out)

## LM2904ADMR2
designator U?
Single Supply Dual Operational Amplifier, 3 to 32 V, -40 to 105 degC, 8-Pin MICRO, Tape and Reel; Manufacturer: On Semiconductor; PartNumber: LM2904ADMR2; VCC Max (V): 32; VCC Min (V): 3; DatasheetVersion: Rev. 27; PackageVersion: Rev. H; PackageReference: MICRO-8-846A-02_H; PackageDescription: 8-Pin Small Outline Package, Body 3 x 3 mm, Pitch 0.65 mm; Packing: Tape and Reel; RoHS: FALSE; Mounting Technology: Surface Mount; ComponentLink1Description: Manufacturer URL; ComponentLink1URL: http://www.onsemi.com/; ComponentLink2Description: Datasheet; ComponentLink2URL: http://www.onsemi.cn/pub_link/Collateral/LM358-D.PDF; ComponentLink3Description: Package Specification; ComponentLink3URL: http://www.onsemi.com/pub_link/Collateral/NLSV2T244-D.PDF
footprint ONSC-MICRO-8-846A-02_H_V (SOIC, 8-Leads, Body 3.1x3.1mm, Pitch 0.65mm)
pins on every part: 4 VEE/GND (power), 8 VCC (power)
part A pins: 1 OUTA (out), 2 INA- (in), 3 INA+ (in)
part B pins: 5 INB+ (in), 6 INB- (in), 7 OUTB (out)

## LM2904ADMR2G
designator U?
Single Supply Dual Operational Amplifier, 3 to 32 V, -40 to 105 degC, 8-Pin MICRO, Pb-Free, Tape and Reel; Manufacturer: On Semiconductor; PartNumber: LM2904ADMR2G; VCC Max (V): 32; VCC Min (V): 3; DatasheetVersion: Rev. 27; PackageVersion: Rev. H; PackageReference: MICRO-8-846A-02_H; PackageDescription: 8-Pin Small Outline Package, Body 3 x 3 mm, Pitch 0.65 mm; Supplier 1: Digi-Key; Supplier Part Number 1: LM2904ADMR2GOSTR-ND; Supplier 2: Digi-Key; Supplier Part Number 2: LM2904ADMR2GOSCT-ND; Supplier 3: Digi-Key; Supplier Part Number 3: LM2904ADMR2GOSDKR-ND; Supplier 4: Mouser; Supplier Part Number 4: 863-LM2904ADMR2G; Packing: Tape and Reel; RoHS: TRUE; Mounting Technology: Surface Mount; ComponentLink1Description: Manufacturer URL; ComponentLink1URL: http://www.onsemi.com/; ComponentLink2Description: Datasheet; ComponentLink2URL: http://www.onsemi.cn/pub_link/Collateral/LM358-D.PDF; ComponentLink3Description: Package Specification; ComponentLink3URL: http://www.onsemi.com/pub_link/Collateral/NLSV2T244-D.PDF
footprint ONSC-MICRO-8-846A-02_H_V (SOIC, 8-Leads, Body 3.1x3.1mm, Pitch 0.65mm)
pins on every part: 4 VEE/GND (power), 8 VCC (power)
part A pins: 1 OUTA (out), 2 INA- (in), 3 INA+ (in)
part B pins: 5 INB+ (in), 6 INB- (in), 7 OUTB (out)

## LM2904AN
designator U?
Single Supply Dual Operational Amplifier, 3 to 32 V, -40 to 105 degC, 8-Pin PDIP, Tube; Manufacturer: On Semiconductor; PartNumber: LM2904AN; VCC Max (V): 32; VCC Min (V): 3; DatasheetVersion: Rev. 27; PackageVersion: Rev. M, 04/2010; PackageReference: PDIP-8-626-05; PackageDescription: 8-Pin Plastic Dual-In Line Package, Body 9.52 x 6.605 mm, Pitch 2.54 mm; Supplier 1: Digi-Key; Supplier Part Number 1: LM2904ANOS-ND; Packing: Tube; RoHS: FALSE; Mounting Technology: Through Hole; ComponentLink1Description: Manufacturer URL; ComponentLink1URL: http://www.onsemi.com/; ComponentLink2Description: Datasheet; ComponentLink2URL: http://www.onsemi.cn/pub_link/Collateral/LM358-D.PDF; ComponentLink3Description: Package Specification; ComponentLink3URL: http://www.onsemi.com/pub_link/Collateral/LM211-D.PDF
footprint ONSC-PDIP-8-626-05_M (DIP, 8-Leads, Body 10x7.1mm, Pitch 2.54mm)
pins on every part: 4 VEE/GND (power), 8 VCC (power)
part A pins: 1 OUTA (out), 2 INA- (in), 3 INA+ (in)
part B pins: 5 INB+ (in), 6 INB- (in), 7 OUTB (out)

## LM2904ANG
designator U?
Single Supply Dual Operational Amplifier, 3 to 32 V, -40 to 105 degC, 8-Pin PDIP, Pb-Free, Tube; Manufacturer: On Semiconductor; PartNumber: LM2904ANG; VCC Max (V): 32; VCC Min (V): 3; DatasheetVersion: Rev. 27; PackageVersion: Rev. M, 04/2010; PackageReference: PDIP-8-626-05; PackageDescription: 8-Pin Plastic Dual-In Line Package, Body 9.52 x 6.605 mm, Pitch 2.54 mm; Supplier 1: Digi-Key; Supplier Part Number 1: LM2904ANGOS-ND; Supplier 2: Newark; Supplier Part Number 2: 45J0727; Supplier 3: Mouser; Supplier Part Number 3: 863-LM2904ANG; Packing: Tube; RoHS: TRUE; Mounting Technology: Through Hole; ComponentLink1Description: Manufacturer URL; ComponentLink1URL: http://www.onsemi.com/; ComponentLink2Description: Datasheet; ComponentLink2URL: http://www.onsemi.cn/pub_link/Collateral/LM358-D.PDF; ComponentLink3Description: Package Specification; ComponentLink3URL: http://www.onsemi.com/pub_link/Collateral/LM211-D.PDF
footprint ONSC-PDIP-8-626-05_M (DIP, 8-Leads, Body 10x7.1mm, Pitch 2.54mm)
pins on every part: 4 VEE/GND (power), 8 VCC (power)
part A pins: 1 OUTA (out), 2 INA- (in), 3 INA+ (in)
part B pins: 5 INB+ (in), 6 INB- (in), 7 OUTB (out)

## LM2904D
designator U?
Single Supply Dual Operational Amplifier, 3 to 32 V, -40 to 105 degC, 8-Pin SOIC, Tube; Manufacturer: On Semiconductor; PartNumber: LM2904D; VCC Max (V): 32; VCC Min (V): 3; DatasheetVersion: Rev. 27; PackageVersion: Rev. AK, 02/2011; PackageReference: SOIC-8-751-07; PackageDescription: 8-Pin Small Outline Integrated Circuit, Body 4.9 x 3.9 mm, Pitch 1.27 mm; Packing: Tube; RoHS: FALSE; Mounting Technology: Surface Mount; ComponentLink1Description: Manufacturer URL; ComponentLink1URL: http://www.onsemi.com/; ComponentLink2Description: Datasheet; ComponentLink2URL: http://www.onsemi.cn/pub_link/Collateral/LM358-D.PDF; ComponentLink3Description: Package Specification; ComponentLink3URL: http://www.onsemi.com/pub_link/Collateral/751-07.PDF
footprint ONSC-SOIC-8-751-07_V (SOIC, 8-Leads, Body 4.9x3.9mm, Pitch 1.27mm)
pins on every part: 4 VEE/GND (power), 8 VCC (power)
part A pins: 1 OUTA (out), 2 INA- (in), 3 INA+ (in)
part B pins: 5 INB+ (in), 6 INB- (in), 7 OUTB (out)

## LM2904DG
designator U?
Single Supply Dual Operational Amplifier, 3 to 32 V, -40 to 105 degC, 8-Pin SOIC, Pb-Free, Tube; Manufacturer: On Semiconductor; PartNumber: LM2904DG; VCC Max (V): 32; VCC Min (V): 3; DatasheetVersion: Rev. 27; PackageVersion: Rev. AK, 02/2011; PackageReference: SOIC-8-751-07; PackageDescription: 8-Pin Small Outline Integrated Circuit, Body 4.9 x 3.9 mm, Pitch 1.27 mm; Supplier 1: Digi-Key; Supplier Part Number 1: LM2904DGOS-ND; Supplier 2: Farnell; Supplier Part Number 2: 1211097; Supplier 3: Newark; Supplier Part Number 3: 45J0728; Supplier 4: Mouser; Supplier Part Number 4: 863-LM2904DG; Packing: Tube; RoHS: TRUE; Mounting Technology: Surface Mount; ComponentLink1Description: Manufacturer URL; ComponentLink1URL: http://www.onsemi.com/; ComponentLink2Description: Datasheet; ComponentLink2URL: http://www.onsemi.cn/pub_link/Collateral/LM358-D.PDF; ComponentLink3Description: Package Specification; ComponentLink3URL: http://www.onsemi.com/pub_link/Collateral/751-07.PDF
footprint ONSC-SOIC-8-751-07_V (SOIC, 8-Leads, Body 4.9x3.9mm, Pitch 1.27mm)
pins on every part: 4 VEE/GND (power), 8 VCC (power)
part A pins: 1 OUTA (out), 2 INA- (in), 3 INA+ (in)
part B pins: 5 INB+ (in), 6 INB- (in), 7 OUTB (out)

## LM2904DMR2
designator U?
Single Supply Dual Operational Amplifier, 3 to 32 V, -40 to 105 degC, 8-Pin MICRO, Tape and Reel; Manufacturer: On Semiconductor; PartNumber: LM2904DMR2; VCC Max (V): 32; VCC Min (V): 3; DatasheetVersion: Rev. 27; PackageVersion: Rev. H; PackageReference: MICRO-8-846A-02_H; PackageDescription: 8-Pin Small Outline Package, Body 3 x 3 mm, Pitch 0.65 mm; Packing: Tape and Reel; RoHS: FALSE; Mounting Technology: Surface Mount; ComponentLink1Description: Manufacturer URL; ComponentLink1URL: http://www.onsemi.com/; ComponentLink2Description: Datasheet; ComponentLink2URL: http://www.onsemi.cn/pub_link/Collateral/LM358-D.PDF; ComponentLink3Description: Package Specification; ComponentLink3URL: http://www.onsemi.com/pub_link/Collateral/NLSV2T244-D.PDF
footprint ONSC-MICRO-8-846A-02_H_V (SOIC, 8-Leads, Body 3.1x3.1mm, Pitch 0.65mm)
pins on every part: 4 VEE/GND (power), 8 VCC (power)
part A pins: 1 OUTA (out), 2 INA- (in), 3 INA+ (in)
part B pins: 5 INB+ (in), 6 INB- (in), 7 OUTB (out)

## LM2904DMR2G
designator U?
Single Supply Dual Operational Amplifier, 3 to 32 V, -40 to 105 degC, 8-Pin MICRO, Pb-Free, Tape and Reel; Manufacturer: On Semiconductor; PartNumber: LM2904DMR2G; VCC Max (V): 32; VCC Min (V): 3; DatasheetVersion: Rev. 27; PackageVersion: Rev. H; PackageReference: MICRO-8-846A-02_H; PackageDescription: 8-Pin Small Outline Package, Body 3 x 3 mm, Pitch 0.65 mm; Supplier 1: Digi-Key; Supplier Part Number 1: LM2904DMR2GOSTR-ND; Supplier 2: Digi-Key; Supplier Part Number 2: LM2904DMR2GOSCT-ND; Supplier 3: Digi-Key; Supplier Part Number 3: LM2904DMR2GOSDKR-ND; Supplier 4: Newark; Supplier Part Number 4: 98H0566; Supplier 5: Mouser; Supplier Part Number 5: 863-LM2904DMR2G; Packing: Tape and Reel; RoHS: TRUE; Mounting Technology: Surface Mount; ComponentLink1Description: Manufacturer URL; ComponentLink1URL: http://www.onsemi.com/; ComponentLink2Description: Datasheet; ComponentLink2URL: http://www.onsemi.cn/pub_link/Collateral/LM358-D.PDF; ComponentLink3Description: Package Specification; ComponentLink3URL: http://www.onsemi.com/pub_link/Collateral/NLSV2T244-D.PDF
footprint ONSC-MICRO-8-846A-02_H_V (SOIC, 8-Leads, Body 3.1x3.1mm, Pitch 0.65mm)
pins on every part: 4 VEE/GND (power), 8 VCC (power)
part A pins: 1 OUTA (out), 2 INA- (in), 3 INA+ (in)
part B pins: 5 INB+ (in), 6 INB- (in), 7 OUTB (out)

## LM2904DR2
designator U?
Single Supply Dual Operational Amplifier, 3 to 32 V, -40 to 105 degC, 8-Pin SOIC, Tape and Reel; Manufacturer: On Semiconductor; PartNumber: LM2904DR2; VCC Max (V): 32; VCC Min (V): 3; DatasheetVersion: Rev. 27; PackageVersion: Rev. AK, 02/2011; PackageReference: SOIC-8-751-07; PackageDescription: 8-Pin Small Outline Integrated Circuit, Body 4.9 x 3.9 mm, Pitch 1.27 mm; Supplier 1: Digi-Key; Supplier Part Number 1: LM2904DR2OSCT-ND; Packing: Tape and Reel; RoHS: FALSE; Mounting Technology: Surface Mount; ComponentLink1Description: Manufacturer URL; ComponentLink1URL: http://www.onsemi.com/; ComponentLink2Description: Datasheet; ComponentLink2URL: http://www.onsemi.cn/pub_link/Collateral/LM358-D.PDF; ComponentLink3Description: Package Specification; ComponentLink3URL: http://www.onsemi.com/pub_link/Collateral/751-07.PDF
footprint ONSC-SOIC-8-751-07_V (SOIC, 8-Leads, Body 4.9x3.9mm, Pitch 1.27mm)
pins on every part: 4 VEE/GND (power), 8 VCC (power)
part A pins: 1 OUTA (out), 2 INA- (in), 3 INA+ (in)
part B pins: 5 INB+ (in), 6 INB- (in), 7 OUTB (out)